# Altium schematic symbol library SCH - MCU - ATTINY - MICROCHIP ATTINY104-SSFR SOIC14.SchLib: 1 symbol
Pins are listed as number, name and electrical type; pins without a type are passive.

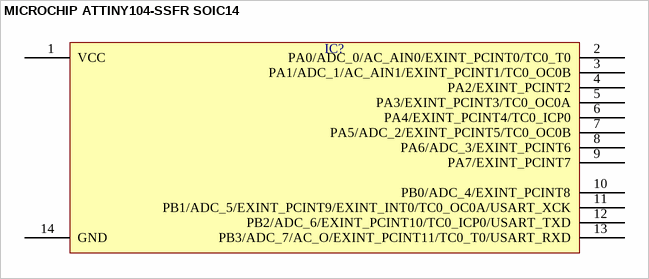
[diagram p0: symbol MICROCHIP ATTINY104-SSFR SOIC14]

## MICROCHIP ATTINY104-SSFR SOIC14
designator IC?  (value not drawn)
pins: 1 VCC, 2 PA0/ADC_0/AC_AIN0/EXINT_PCINT0/TC0_T0, 3 PA1/ADC_1/AC_AIN1/EXINT_PCINT1/TC0_OC0B, 4 PA2/EXINT_PCINT2, 5 PA3/EXINT_PCINT3/TC0_OC0A, 6 PA4/EXINT_PCINT4/TC0_ICP0, 7 PA5/ADC_2/EXINT_PCINT5/TC0_OC0B, 8 PA6/ADC_3/EXINT_PCINT6, 9 PA7/EXINT_PCINT7, 10 PB0/ADC_4/EXINT_PCINT8, 11 PB1/ADC_5/EXINT_PCINT9/EXINT_INT0/TC0_OC0A/USART_XCK, 12 PB2/ADC_6/EXINT_PCINT10/TC0_ICP0/USART_TXD, 13 PB3/ADC_7/AC_O/EXINT_PCINT11/TC0_T0/USART_RXD, 14 GND